# Altium footprint library PCB_MachMQ3.PcbLib: 17 footprints (part 1 of 2)
Each footprint in its own frame and in the unit in brackets; x right, y up, seen from the top. Pads: shape width x height; smd on the part's side, far side on the other; paste and mask are expansions set on the pad; w line width, h text height; cw(c..) or ccw(c..) is an arc to the next point about the centre after c.
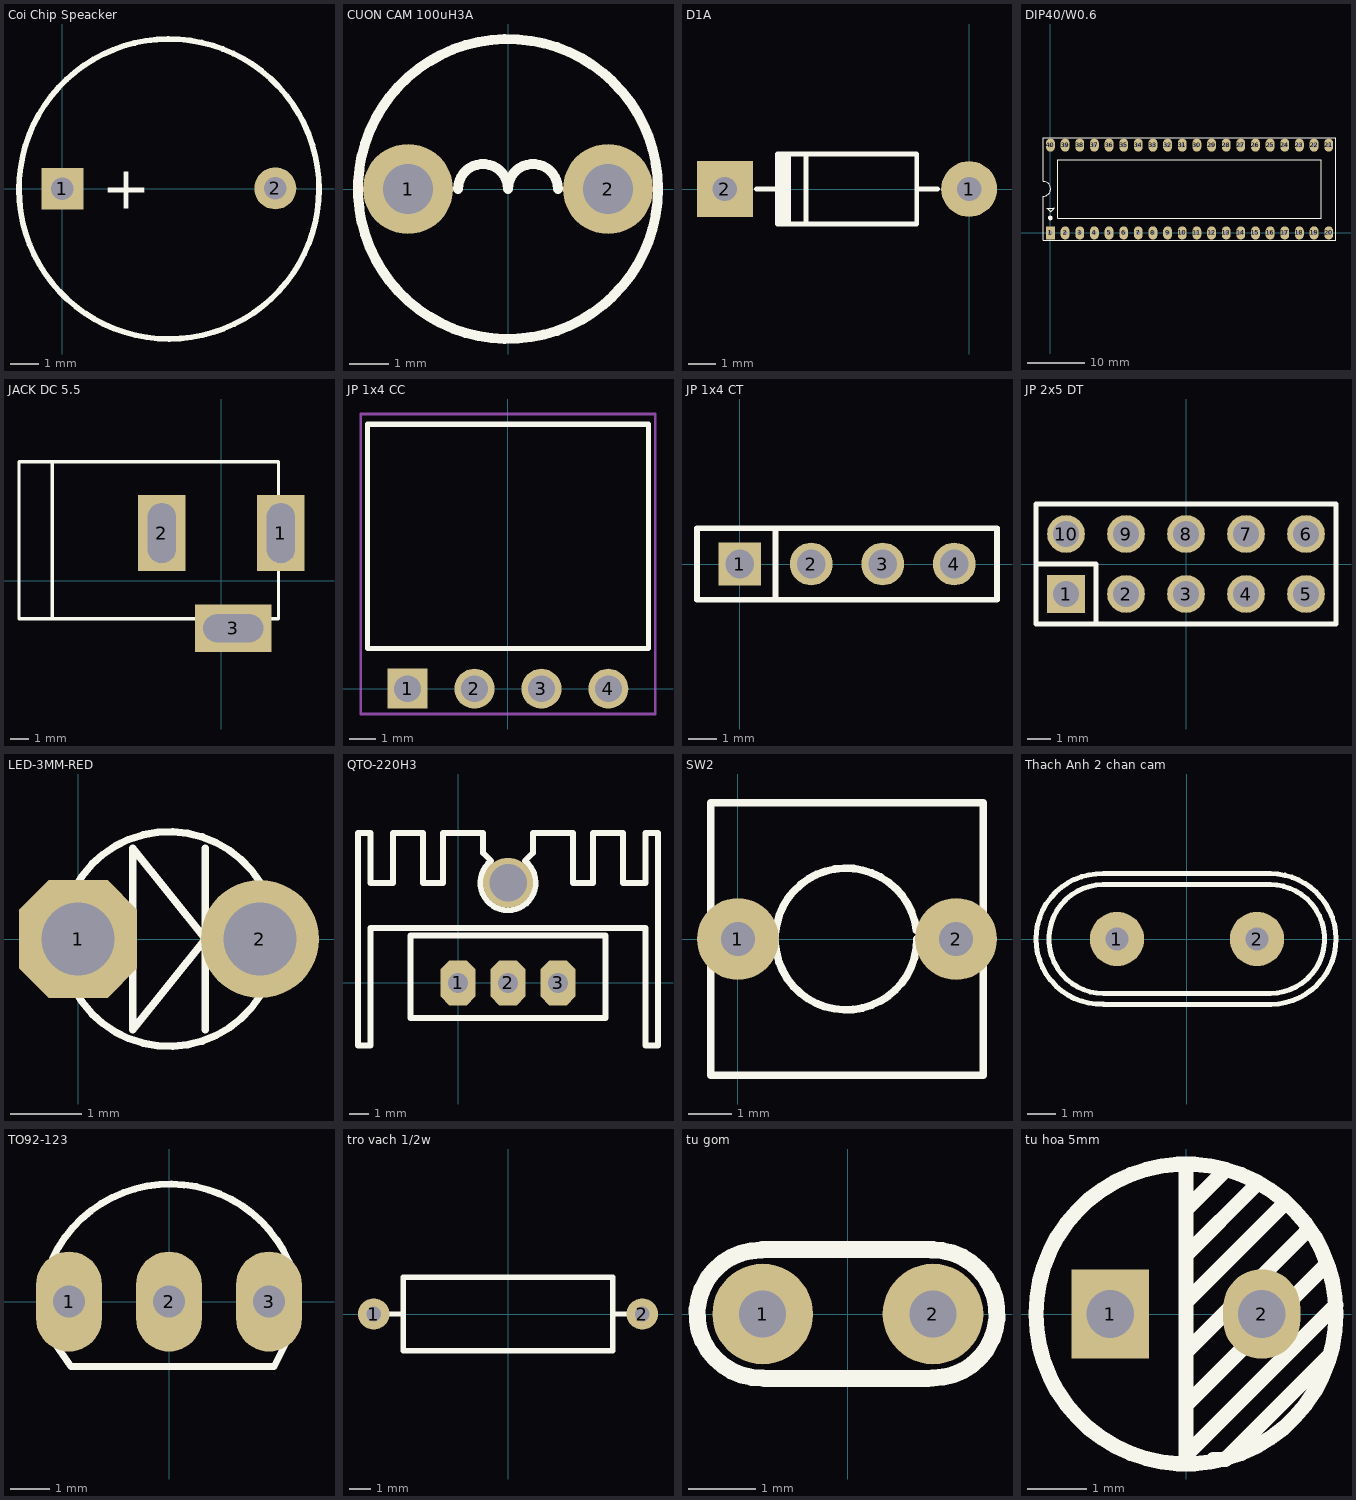
[diagram p0: the footprints below, top view; thin cyan lines are the x and y axes]

## Coi Chip Speacker [mm]
pads (2):
  rect 1.5x1.5 hole 0.8: 1(0,0)
  round 1.5 hole 0.8: 2(7.62,0.013)
Top Overlay:
  lines w0.203: 7.724,3.67 ccw(c3.816,-0.008) 7.76,3.632
  text "+" at 1.41,-0.711 h1.52
3D body "User Library-Buzzer WST-1203UX.step": height 4.5, standoff -9.65, extent -2.215,-6 13.239,6

## CUON CAM 100uH3A [mil]
pads (2):
  round 90 hole 50: 1(-100,0) 2(100,0)
Top Overlay:
  circle w10: c0,0 r150
  lines w10: -50,0 cw(c-25,0) 0,0 cw(c25,0) 50,0
3D body "cuon cam cam 1A.step": height 394.18, standoff -196.37, extent -171.27,-175.26 171.25,167.26

## D1A [mil]
pads (2):
  round 80 hole 35: 1(0,0)
  rect 80x80 hole 35: 2(-350,0)
Top Overlay:
  rectangle: -275,-50 -255,50
  lines w7: -305,0 -275,0 ; -275,-16 -275,0 ; -275,21 -275,0 ; -234,-50 -234,47 ; -75,0 -45,0 ; -275,0 -275,-50 -75,-50 -75,50 -275,50 -275,0
3D body "SW3dPS-do_35.STEP": height 84.5, standoff -100, extent -386.49,-33 34.49,36

## DIP40/W0.6 [mil]
pads (40):
  rect 60x90 hole 31: 1(0,0)
  oval 60x90 hole 31: 2(100,0) 3(200,0) 4(300,0) 5(400,0) 6(500,0) 7(600,0) 8(700,0) 9(800,0) 10(900,0) 11(1000,0) 12(1100,0) 13(1200,0) 14(1300,0) 15(1400,0) 16(1500,0) 17(1600,0) 18(1700,0) 19(1800,0) 20(1900,0) 21(1900,600) 22(1800,600) 23(1700,600) 24(1600,600) 25(1500,600) 26(1400,600) 27(1300,600) 28(1200,600) 29(1100,600) 30(1000,600) 31(900,600) 32(800,600) 33(700,600) 34(600,600) 35(500,600) 36(400,600) 37(300,600) 38(200,600) 39(100,600) 40(0,600)
Top Overlay:
  circle w15: c-1,102 r8
  lines w7: -50.38,251.05 ccw(c-48.69,301.02) -50,351 ; -50,251 -50,-50 1950,-50 1950,650 -50,650 -50,352 ; -24,170 24,170 25,171 25,169 1,145 1,146 -23,170 -24,170 ; 50,100 50,500 1850,500 1850,100 50,100
3D body "SW3dPS-DIP40-600.STEP": height 224.41, standoff -101.57, extent -82.48,-10 1982.48,599.84

## JACK DC 5.5 [mil]
pads (3):
  rect 100x160 hole 59.06 slot 125.98 at 90 deg: 1(125,100) 2(-125,100)
  rect 160x100 hole 59.06 slot 125.98 at 0 deg: 3(25,-100)
Top Overlay:
  lines w7: -355,-80 -355,250 ; -425,-80 120,-80 120,250 -425,250 -425,-80
3D body "SW3dPS-dc range - dc connector[4840.2201].STEP": height 433.67, standoff -137.2, extent -410.35,-105.12 134,269.12

## JP 1x4 CC [mm]
pads (4):
  rect 1.52x1.52 hole 1.02: 1(-3.81,0)
  round 1.52 hole 1.02: 2(-1.27,0) 3(1.27,0) 4(3.81,0)
Top Overlay:
  lines w0.2: -5.33,1.524 5.334,1.524 5.334,10.033 -5.33,10.033 -5.33,1.524
Mechanical 15:
  lines w0.1: -5.58,-0.96 5.584,-0.96 5.584,10.423 -5.58,10.423 -5.58,-0.96
3D body "613004143121.stp": height 2.51, standoff -3.08, extent -5.33,-0.254 5.33,10.046

## JP 1x4 CT [mm]
pads (4):
  rect 1.52x1.52 hole 1.02: 1(0,0)
  round 1.52 hole 1.02: 2(2.54,0) 3(5.08,0) 4(7.62,0)
Top Overlay:
  lines w0.2: 1.27,-1.27 1.27,1.27 ; -1.52,-1.27 -1.52,1.27 9.14,1.27 9.14,-1.27 -1.52,-1.27
3D body "61300411821.stp": height 8.51, standoff -3.09, extent -1.52,-1.25 9.14,1.25

## JP 2x5 DT [mm]
pads (10):
  rect 1.6x1.6 hole 1.1: 1(-5.08,-1.27)
  round 1.6 hole 1.1: 2(-2.54,-1.27) 3(0,-1.27) 4(2.54,-1.27) 5(5.08,-1.27) 6(5.08,1.27) 7(2.54,1.27) 8(0,1.27) 9(-2.54,1.27) 10(-5.08,1.27)
Top Overlay:
  lines w0.2: -6.35,0 -3.81,0 -3.81,-2.54 ; -6.35,-2.54 -6.35,2.54 -1.27,2.54 6.35,2.54 6.35,-2.54 -6.35,-2.54
3D body "61301021121.stp": height 8.55, standoff -2.99, extent -6.35,-2.54 6.35,2.54

## LED-3MM-RED [mil]
pads (2):
  oct 65x65 hole 40: 1(0,0)
  round 65 hole 40: 2(100,0)
Top Overlay:
  circle w4: c50,0 r59.06
  lines w4: 70,-50 70,0 ; 70,50 70,0 ; 70,0 30,-50 30,50 70,0
3D body "User Library-LED-D3R.step": height 181.1, standoff -255.91, extent -27.18,-77.48 117.18,80

## QTO-220H3 [mil]
pads (4):
  oct 70x90 hole 40: 1(0,0) 2(100,0) 3(200,0)
  round 100 hole 75: ""(100,200)
Top Overlay:
  lines w12: 66,244 50,260 50,300 -30,300 -30,200 -70,200 -70,300 -130,300 -130,200 -175,200 -175,300 -200,300 -200,-125 -175,-125 -175,110 375,110 375,-125 400,-125 400,300 375,300 375,200 330,200 330,300 270,300 270,200 230,200 230,300 150,300 150,260 133.59,243.59 ; 66.37,243.52 ccw(c100,200) 133.77,243.41 ; -95,-70 -95,95 295,95 295,-70 -95,-70
3D body "SW3dPS-heatsink TO126.STEP": height 984.25, standoff -149.61, extent -189.97,-102.25 391.97,323
3D body "User Library-TO-220-1.STEP": height 322.83, standoff -810.24, extent -96.88,-76.17 292.88,101

## SW2 [mil]
pads (2):
  round 75 hole 31: 1(0,0) 2(200,0)
Top Overlay:
  lines w7: 163.64,8.26 ccw(c99.17,0) 164.17,0 ; -25,-125 -25,125 225,125 225,-125 -25,-125
3D body "19978.stp": height 196.85, standoff -551.18, extent -18.1,-116.1 218.12,127.99

## Thach Anh 2 chan cam [mm]
pads (2):
  round 1.905 hole 0.8: 1(-2.45,0) 2(2.45,0)
Top Overlay:
  lines w0.178: -2.939,1.905 ccw(c-2.927,0) -2.921,-1.905 2.921,-1.905 ccw(c2.908,0) 2.903,1.905 ; -2.922,-2.283 cw(c-2.998,0.001) -2.921,2.286 2.921,2.286 cw(c2.928,0) 2.943,-2.286 ; -2.921,-2.286 2.921,-2.286 ; -2.921,1.905 2.921,1.905
3D body "SW3dPS-HP49US.STEP": height 3.5, standoff -4, extent -5.675,-2.364 5.675,2.286

## TO92-123 [mil]
pads (3):
  oval 66x100 hole 32: 1(-100,0) 2(0,0) 3(100,0)
Top Overlay:
  lines w7: -116.52,43.21 cw(c0.97,-12.43) 119.94,39.97 ; -115.34,-40.24 -98,-65 105,-65 118,-39
3D body "SW3dPS-TO92.STEP": height 245.04, standoff -199.79, extent -108.87,-65.56 108.86,95

## tro vach 1/2w [mm]
pads (2):
  round 1.5 hole 0.7: 1(-6.4,0) 2(6.4,0)
Top Overlay:
  lines w0.254: -5.842,0 -5.08,0 ; 5.08,0 5.842,0 ; -5,-1.75 5,-1.75 5,1.75 -5,1.75 -5,-1.75
3D body "Resistro_0.5w.STEP": height 3.5, standoff -3, extent -6.62,-1.75 6.62,1.75

## tu gom [mm]
pads (2):
  round 1.5 hole 0.7: 1(-1.27,0) 2(1.27,0)
Top Overlay:
  lines w0.254: -1.285,0.955 ccw(c-1.295,0) -1.27,-0.954 ; -1.27,0.965 1.27,0.965 ; -1.245,-0.965 1.194,-0.965 ; 1.245,0.954 cw(c1.27,0) 1.259,-0.955
3D body "User Library-Cap 100n.step": height 6.12, standoff -1.8, extent -2.918,-0.848 2.921,0.848

## tu hoa 5mm [mm]
pads (2):
  rect 1.3x1.5 hole 0.8: 1(-1.27,0)
  oval 1.3x1.5 hole 0.8: 2(1.27,0)
Top Overlay:
  circle w0.254: c0,0 r2.515
  lines w0.254: 0,-2.489 0,2.515 ; 0,-2.362 2.515,0.152 ; 0,-1.549 0,-1.524 2.362,0.838 ; 0,-0.737 0,-0.635 2.007,1.372 ; 0,0.203 1.651,1.854 ; 0,0.965 0,0.991 1.168,2.159 ; 0,1.727 0,1.321 0,1.753 0.61,2.362 ; 0.457,-2.438 0.66,-2.438 2.388,-0.711
3D body "Cap electro 6_3x11x2_5mm.step": height 14.55, standoff 0.01, extent -3.125,-3.175 3.226,3.175